# EAGLE library part LM5160QPWPRQ1 (library LM5160QPWPRQ1)
Voltage Regulators - Switching Regulators Wide Input 65V, 1.5A Synchronous Buck / Fly-Buck? Converter 14-HTSSOP -40 to 125 <https://componentsearchengine.com/Images/1/LM5160QPWPRQ1.jpg> Source: Datasheet <http://www.ti.com/lit/gpn/lm5160-q1>
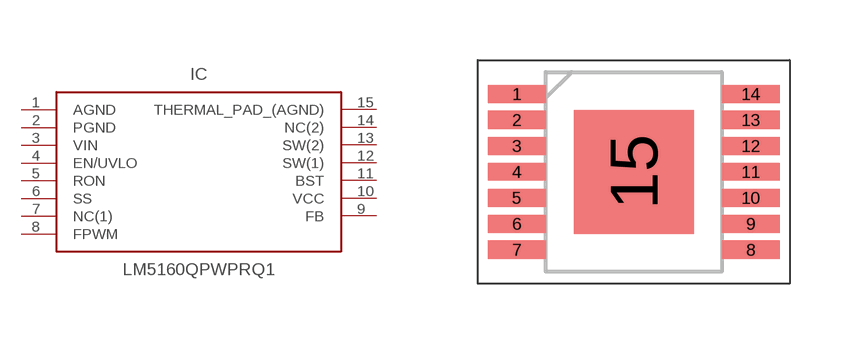
[diagram p0: symbol with the pads of SOP65P640X110-15N; footprint SOP65P640X110-15N]

Designator prefix IC

## LM5160QPWPRQ1 (DESCRIPTION: Voltage Regulators - Switching Regulators Wide Input 65V, 1.5A Synchronous Buck / Fly-Buck? Converter 14-HTSSOP -40 to 125; HEIGHT: 1.1mm; MANUFACTURER_NAME: Texas Instruments; MANUFACTURER_PART_NUMBER: LM5160QPWPRQ1; SUPPLIER_NAME: RS)  [SOP65P640X110-15N]
1  AGND  pas
2  PGND  pas
3  VIN  pas
4  EN/UVLO  pas
5  RON  pas
6  SS  pas
7  NC(1)  pas
8  FPWM  pas
9  FB  pas
10  VCC  pas
11  BST  pas
12  SW(1)  pas
13  SW(2)  pas
14  NC(2)  pas
15  THERMAL_PAD_(AGND)  pas

## Footprint SOP65P640X110-15N (pad centres in mm)
PWP0014A
smd 1.45 x 0.45: 1 -2.925,1.95; 2 -2.925,1.3; 3 -2.925,0.65; 4 -2.925,0; 5 -2.925,-0.65; 6 -2.925,-1.3; 7 -2.925,-1.95; 8 2.925,-1.95; 9 2.925,-1.3; 10 2.925,-0.65; 11 2.925,0; 12 2.925,0.65; 13 2.925,1.3; 14 2.925,1.95
smd 3 x 3.1: 15 0,0